# EAGLE library part NODEMCU-32S (library polargraph3)
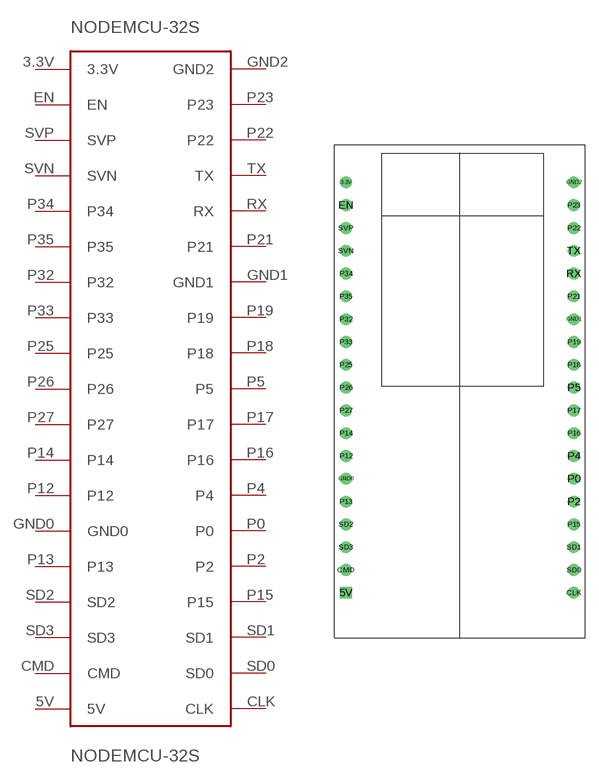
[diagram p2: symbol with the pads of NODEMCU-32S; footprint NODEMCU-32S]

Designator prefix NODEMCU-32S

## NODEMCU-32S  [NODEMCU-32S]
3.3V  3.3V
5V  5V
CLK  CLK
CMD  CMD
EN  EN
GND0  GND0
GND1  GND1
GND2  GND2
P0  P0
P2  P2
P4  P4
P5  P5
P12  P12
P13  P13
P14  P14
P15  P15
P16  P16
P17  P17
P18  P18
P19  P19
P21  P21
P22  P22
P23  P23
P25  P25
P26  P26
P27  P27
P32  P32
P33  P33
P34  P34
P35  P35
RX  RX
SD0  SD0
SD1  SD1
SD2  SD2
SD3  SD3
SVN  SVN
SVP  SVP
TX  TX

## Footprint NODEMCU-32S (pad centres in mm)
drill 0.8: 3.3V 0,45.72; CLK 25.4,0; CMD 0,2.54; EN 0,43.18; GND0 0,12.7; GND1 25.4,30.48; GND2 25.4,45.72; P0 25.4,12.7; P2 25.4,10.16; P4 25.4,15.24; P5 25.4,22.86; P12 0,15.24; P13 0,10.16; P14 0,17.78; P15 25.4,7.62; P16 25.4,17.78; P17 25.4,20.32; P18 25.4,25.4; P19 25.4,27.94; P21 25.4,33.02; P22 25.4,40.64; P23 25.4,43.18; P25 0,25.4; P26 0,22.86; P27 0,20.32; P32 0,30.48; P33 0,27.94; P34 0,35.56; P35 0,33.02; RX 25.4,35.56; SD0 25.4,2.54; SD1 25.4,5.08; SD2 0,7.62; SD3 0,5.08; SVN 0,38.1; SVP 0,40.64; TX 25.4,38.1
drill 0.8 square: 5V 0,0